# Altium schematic symbol library Sensing Element.SchLib: 21 symbols
Pins are listed as number, name and electrical type; pins without a type are passive.

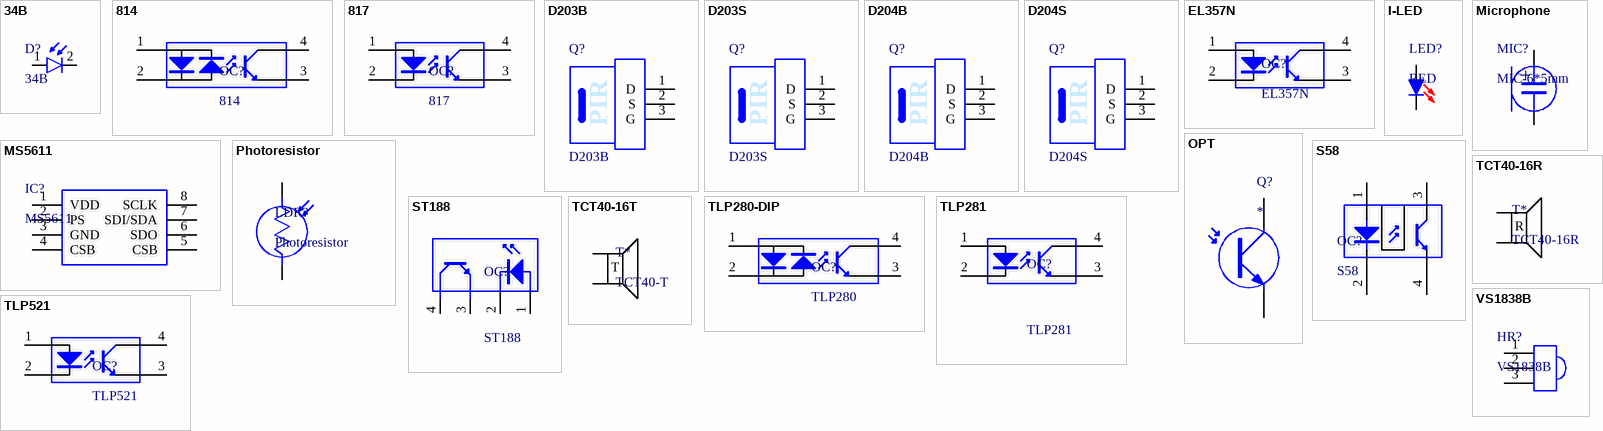
[diagram p0: symbols 34B to VS1838B]

## 34B
designator D?
Photodiode; Designer: Saeid Jorablo; Company: Personal; Project Name: Laser; Adding Date: 10/21/2009
footprint 34b
pins: 1 A, 2 K

## 814
designator OC?
AC Input Photocoupler
pins: 1 A "Anode", 2 K "Cathode", 3 E "Emitter", 4 C "Collector"

## 817
designator OC?
AC Input Photocoupler; BOM名称: 线性光耦; 版权归属: 源创客; 学习资源: www.ooocke.com
footprint DIP4-300 (4.6*7.6*3.8(长宽高）)
pins: 1 A "Anode", 2 K "Cathode", 3 E "Emitter", 4 C "Collector"

## D203B
designator Q?
Pyroelectric Infrared  Radial Sensor; Designer: Saeid Jorablo; Company: IPA CO.; Last Update Time: 2008/07/17; Value: D203B
footprint PIR-B Type (For D203B and D204B PIR Sensors)
pins: 1 D "Drain", 2 S "Source", 3 G "Ground"
text: PIR

## D203S
designator Q?
Pyroelectric Infrared  Radial Sensor; Designer: Saeid Jorablo; Company: IPA CO.; Last Update Time: 2008/07/17; Value: D203S
footprint PIR-S Type (For D203S and D204S PIR Sensors)
pins: 1 D "Drain", 2 S "Source", 3 G "Ground"
text: PIR

## D204B
designator Q?
Pyroelectric Infrared  Radial Sensor; Designer: Saeid Jorablo; Company: IPA CO.; Last Update Time: 2008/07/17; Value: D204B
footprint PIR-B Type (For D203B and D204B PIR Sensors)
pins: 1 D "Drain", 2 S "Source", 3 G "Ground"
text: PIR

## D204S
designator Q?
Pyroelectric Infrared  Radial Sensor; Designer: Saeid Jorablo; Company: IPA Co.; Last Update Time: 2008/07/17; Value: D204S
footprint PIR-S Type (For D203S and D204S PIR Sensors)
footprint PIR-B Type (For D203B and D204B PIR Sensors)
pins: 1 D "Drain", 2 S "Source", 3 G "Ground"
text: PIR

## EL357N
designator OC?
Linear optocoupler; BOM名称: 线性光耦; 版权归属: 源创客; 学习资源: www.ooocke.com
footprint DIP4-300 (4.6*7.6*3.8(长宽高）)
footprint SOP4_N (4.4*6.8*2.1mm（长宽高）)
footprint SOP4_L (4.4*6.8*2.1mm（长宽高）)
footprint SOP4_M (4.4*6.8*2.1mm（长宽高）)
pins: 1 A "Anode", 2 K "Cathode", 3 E "Emitter", 4 C "Collector"

## I-LED
designator LED?, comment RED
Infrared Transmitter Diode; BOM名称: 红外二极管; 版权归属: 源创客; 学习资源: www.ooocke.com
footprint I-LED-3MM
footprint I-LED-5MM
pins: 1 A, 2 K

## Microphone
designator MIC?, comment MIC-6*5mm
Condenser microphone; BOM名称: 电容麦克风; 版权归属: 源创客; 学习资源: www.ooocke.com
footprint MIC-6*5.5mm (咪咪头)
footprint MIC-4.5*1.9 (咪咪头)
pins: 1, 2
text: +

## MS5611
designator IC?
Barometric pressure sensor; BOM名称: 气压传感器; 版权归属: 源创客; 学习资源: www.ooocke.com
footprint MS5611 (气压传感芯片)
pins: 1 VDD, 2 PS, 3 GND, 4 CSB, 5 CSB, 6 SDO, 7 SDI/SDA, 8 SCLK

## OPT
designator Q?
Infrared Receiver; BOM名称: 红外接收管; 版权归属: 源创客; 学习资源: www.ooocke.com
footprint OPT-3MM (3mm红外接收管)
footprint OPT-5MM (5mm红外接收管)
pins: 1, 2

## Photoresistor
designator LDR?
Photocell-RG5528
footprint Photocell (Footprint not found)
pins: 1, 2

## S58
designator OC?
Slot Photocoupler; BOM名称: 槽间光耦; 版权归属: 源创客; 学习资源: www.ooocke.com
footprint S58 (对射型光耦)
pins: 1 A, 2 K, 3 C, 4 E

## ST188
designator OC?
Reflective Optocoupler; BOM名称: 反射型光耦; 版权归属: 源创客; 学习资源: www.ooocke.com
footprint ST188 (反射型光耦)
pins: 1 A "Anode", 2 K "Cathode", 3 E "Emitter", 4 C "Collector"

## TCT40-16R
designator T*
Ultrasonic Receiving Head 16mm
footprint TCT40-16 (超声波发射、接收头通用)
pins: 1 4, 2 5
text: R

## TCT40-16T
designator T*, comment TCT40-T
Ultrasonic Transmitter Head 16mm
footprint TCT40-16 (超声波发射、接收头通用)
pins: 1 4, 2 5
text: T

## TLP280-DIP
designator OC?, comment TLP280
GaAs Ired & Photo−Transistor
footprint DIP4-300 (4.6*7.6*3.8(³¤¿í¸ß£©)
pins: 1 A "Anode", 2 K "Cathode", 3 E "Emitter", 4 C "Collector"

## TLP281
designator OC?
Optocoupler; BOM名称: 光耦; 版权归属: 源创客; 学习资源: www.ooocke.com
footprint SOP4_N (4.4*6.8*2.1mm（长宽高）)
footprint SOP4_L (4.4*6.8*2.1mm（长宽高）)
footprint SOP4_M (4.4*6.8*2.1mm（长宽高）)
footprint DIP4-300 (Footprint not found)
pins: 1 A "Anode", 2 K "Cathode", 3 E "Emitter", 4 C "Collector"

## TLP521
designator OC?
Switching optocoupler; BOM名称: 开关光耦; 版权归属: 源创客; 学习资源: www.ooocke.com
footprint DIP4-300 (4.6*7.6*3.8(长宽高）)
footprint SOP4_N (4.4*6.8*2.1mm（长宽高）)
footprint SOP4_L (4.4*6.8*2.1mm（长宽高）)
footprint SOP4_M (4.4*6.8*2.1mm（长宽高）)
pins: 1 A "Anode", 2 K "Cathode", 3 E "Emitter", 4 C "Collector"

## VS1838B
designator HR?
Infrared receiver; BOM名称: 红外接收头; 版权归属: 源创客; 学习资源: www.ooocke.com
footprint VS1838B-A (一体红外接收头)
footprint VS1838B-B (一体红外接收头)
footprint VS1838B-B_H (卧式一体红外接收头)
footprint VS1838B-A_H (卧式一体红外接收头)
pins: 1 A "Anode", 2 K "Cathode", 3 E "Emitter"